# Altium schematic symbol library Connectors.SchLib: 2 symbols
Pins are listed as number, name and electrical type; pins without a type are passive.

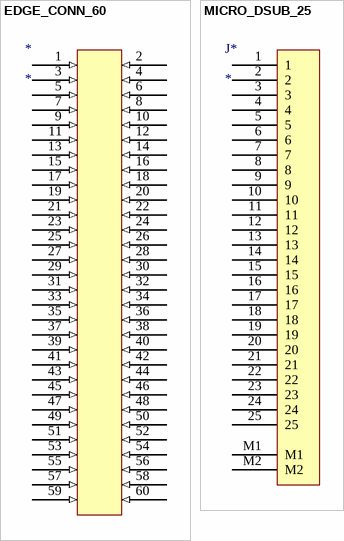
[diagram p0: symbols EDGE_CONN_60 to MICRO_DSUB_25]

## EDGE_CONN_60
designator *
Card edge connector 60-pin
footprint EDGE_CONN_60
pins: 1 (in), 2 (in), 3 (in), 4 (in), 5 (in), 6 (in), 7 (in), 8 (in), 9 (in), 10 (in), 11 (in), 12 (in), 13 (in), 14 (in), 15 (in), 16 (in), 17 (in), 18 (in), 19 (in), 20 (in), 21 (in), 22 (in), 23 (in), 24 (in), 25 (in), 26 (in), 27 (in), 28 (in), 29 (in), 30 (in), 31 (in), 32 (in), 33 (in), 34 (in), 35 (in), 36 (in), 37 (in), 38 (in), 39 (in), 40 (in), 41 (in), 42 (in), 43 (in), 44 (in), 45 (in), 46 (in), 47 (in), 48 (in), 49 (in), 50 (in), 51 (in), 52 (in), 53 (in), 54 (in), 55 (in), 56 (in), 57 (in), 58 (in), 59 (in), 60 (in)

## MICRO_DSUB_25
designator J*
Micro D-Sub 25 pin connector
footprint 581-M25-113L461 (CONN MICRO-D MALE 25P RA)
pins: 1, 2, 3, 4, 5, 6, 7, 8, 9, 10, 11, 12, 13, 14, 15, 16, 17, 18, 19, 20, 21, 22, 23, 24, 25, M1, M2